# Altium schematic symbol library 1986BE8T.Schlib: 1 symbol
Pins are listed as number, name and electrical type; pins without a type are passive.

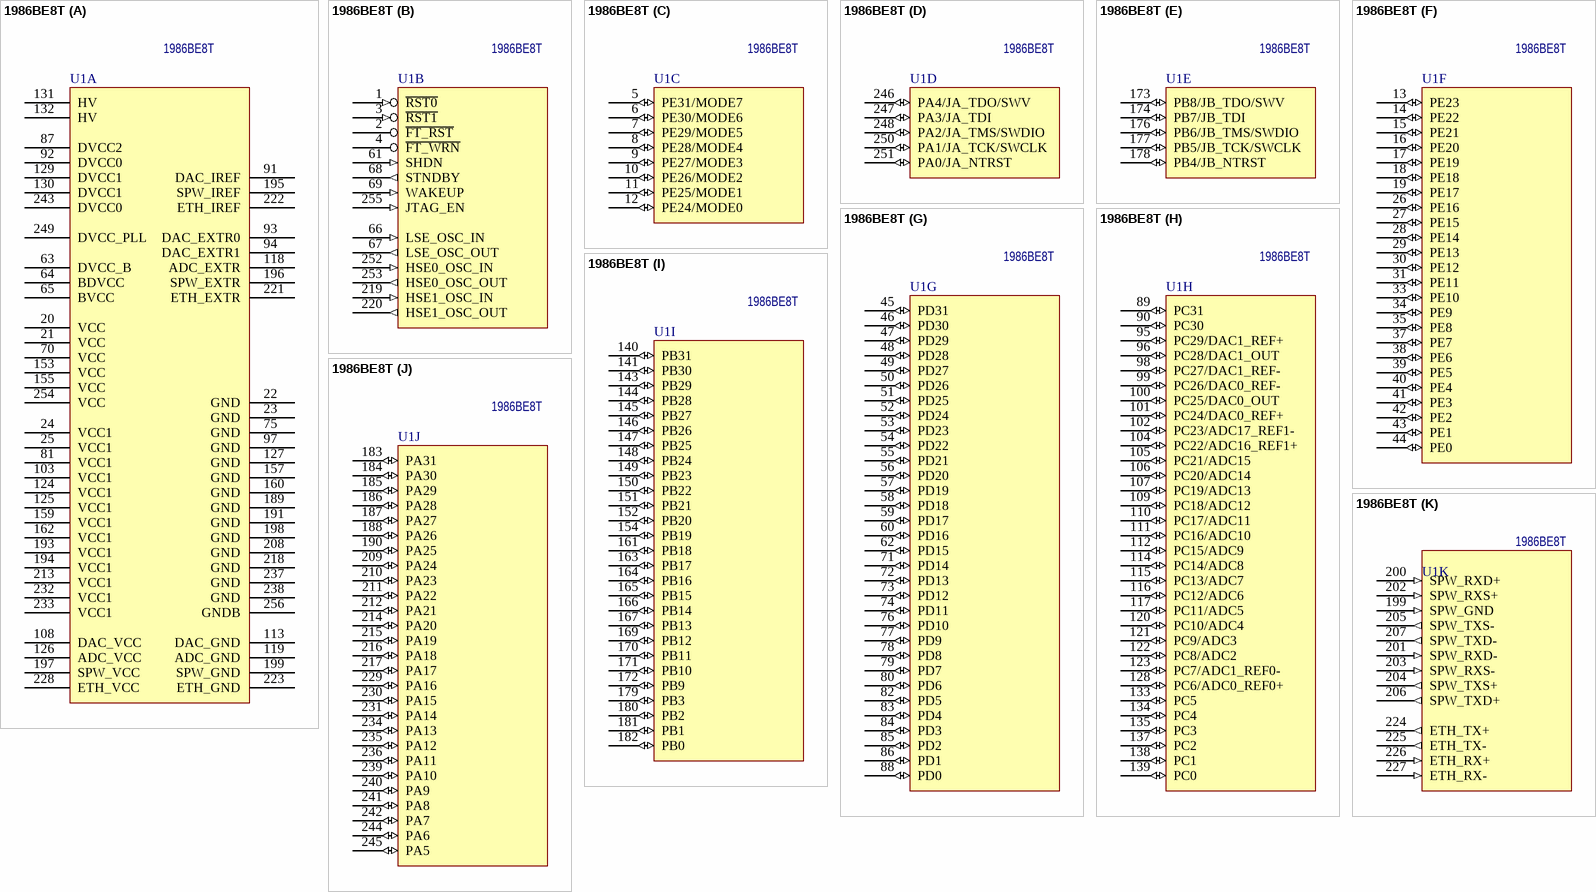
[diagram p0: symbol 1986BE8T]

## 1986BE8T
designator U1, comment Наименование: 1986BE8T  (hidden comment: 1986VE8T)
ARM CortexM4F микроконтроллер; Назначение: АРМ микроконтроллер; Потребление, Вт: *; ComponentLink1Description: DataSheet; ComponentLink1URL: https://ic.milandr.ru/upload/iblock/62c/62ca58d6ede1a3e06d56be1e19dbdbc8.pdf; ComponentLink2Description: Errata; ComponentLink2URL: https://ic.milandr.ru/upload/iblock/379/379105061a67e6dd9373b458eff4ec3a.pdf
footprint 4244.256-3
part A pins: 20 VCC (power), 21 VCC (power), 22 GND (power), 23 GND (power), 24 VCC1 (power), 25 VCC1 (power), 63 DVCC_B (power), 64 BDVCC (power), 65 BVCC (power), 70 VCC (power), 75 GND (power), 81 VCC1 (power), 87 DVCC2 (power), 91 DAC_IREF, 92 DVCC0 (power), 93 DAC_EXTR0, 94 DAC_EXTR1, 97 GND (power), 103 VCC1 (power), 108 DAC_VCC (power), 113 DAC_GND (power), 118 ADC_EXTR, 119 ADC_GND (power), 124 VCC1 (power), 125 VCC1 (power), 126 ADC_VCC (power), 127 GND (power), 129 DVCC1 (power), 130 DVCC1 (power), 131 HV (power), 132 HV (power), 153 VCC (power), 155 VCC (power), 157 GND (power), 159 VCC1 (power), 160 GND (power), 162 VCC1 (power), 189 GND (power), 191 GND (power), 193 VCC1 (power), 194 VCC1 (power), 195 SPW_IREF, 196 SPW_EXTR, 197 SPW_VCC (power), 198 GND (power), 199 SPW_GND (power), 208 GND (power), 213 VCC1 (power), 218 GND (power), 221 ETH_EXTR, 222 ETH_IREF, 223 ETH_GND (power), 228 ETH_VCC (power), 232 VCC1 (power), 233 VCC1 (power), 237 GND (power), 238 GND (power), 243 DVCC0 (power), 249 DVCC_PLL (power), 254 VCC (power), 256 GNDB (power)
part B pins: 1 ~{RST0} (in), 2 ~{FT_RST} (oc), 3 ~{RST1} (in), 4 ~{FT_WRN} (oc), 61 SHDN (in), 66 LSE_OSC_IN (in), 67 LSE_OSC_OUT (out), 68 STNDBY (out), 69 WAKEUP (in), 219 HSE1_OSC_IN (in), 220 HSE1_OSC_OUT (out), 252 HSE0_OSC_IN (in), 253 HSE0_OSC_OUT (out), 255 JTAG_EN (in)
part C pins: 5 PE31/MODE7 (io), 6 PE30/MODE6 (io), 7 PE29/MODE5 (io), 8 PE28/MODE4 (io), 9 PE27/MODE3 (io), 10 PE26/MODE2 (io), 11 PE25/MODE1 (io), 12 PE24/MODE0 (io)
part D pins: 246 PA4/JA_TDO/SWV (io), 247 PA3/JA_TDI (io), 248 PA2/JA_TMS/SWDIO (io), 250 PA1/JA_TCK/SWCLK (io), 251 PA0/JA_NTRST (io)
part E pins: 173 PB8/JB_TDO/SWV (io), 174 PB7/JB_TDI (io), 176 PB6/JB_TMS/SWDIO (io), 177 PB5/JB_TCK/SWCLK (io), 178 PB4/JB_NTRST (io)
part F pins: 13 PE23 (io), 14 PE22 (io), 15 PE21 (io), 16 PE20 (io), 17 PE19 (io), 18 PE18 (io), 19 PE17 (io), 26 PE16 (io), 27 PE15 (io), 28 PE14 (io), 29 PE13 (io), 30 PE12 (io), 31 PE11 (io), 33 PE10 (io), 34 PE9 (io), 35 PE8 (io), 37 PE7 (io), 38 PE6 (io), 39 PE5 (io), 40 PE4 (io), 41 PE3 (io), 42 PE2 (io), 43 PE1 (io), 44 PE0 (io)
part G pins: 45 PD31 (io), 46 PD30 (io), 47 PD29 (io), 48 PD28 (io), 49 PD27 (io), 50 PD26 (io), 51 PD25 (io), 52 PD24 (io), 53 PD23 (io), 54 PD22 (io), 55 PD21 (io), 56 PD20 (io), 57 PD19 (io), 58 PD18 (io), 59 PD17 (io), 60 PD16 (io), 62 PD15 (io), 71 PD14 (io), 72 PD13 (io), 73 PD12 (io), 74 PD11 (io), 76 PD10 (io), 77 PD9 (io), 78 PD8 (io), 79 PD7 (io), 80 PD6 (io), 82 PD5 (io), 83 PD4 (io), 84 PD3 (io), 85 PD2 (io), 86 PD1 (io), 88 PD0 (io)
part H pins: 89 PC31 (io), 90 PC30 (io), 95 PC29/DAC1_REF+ (io), 96 PC28/DAC1_OUT (io), 98 PC27/DAC1_REF- (io), 99 PC26/DAC0_REF- (io), 100 PC25/DAC0_OUT (io), 101 PC24/DAC0_REF+ (io), 102 PC23/ADC17_REF1- (io), 104 PC22/ADC16_REF1+ (io), 105 PC21/ADC15 (io), 106 PC20/ADC14 (io), 107 PC19/ADC13 (io), 109 PC18/ADC12 (io), 110 PC17/ADC11 (io), 111 PC16/ADC10 (io), 112 PC15/ADC9 (io), 114 PC14/ADC8 (io), 115 PC13/ADC7 (io), 116 PC12/ADC6 (io), 117 PC11/ADC5 (io), 120 PC10/ADC4 (io), 121 PC9/ADC3 (io), 122 PC8/ADC2 (io), 123 PC7/ADC1_REF0- (io), 128 PC6/ADC0_REF0+ (io), 133 PC5 (io), 134 PC4 (io), 135 PC3 (io), 137 PC2 (io), 138 PC1 (io), 139 PC0 (io)
part I pins: 140 PB31 (io), 141 PB30 (io), 143 PB29 (io), 144 PB28 (io), 145 PB27 (io), 146 PB26 (io), 147 PB25 (io), 148 PB24 (io), 149 PB23 (io), 150 PB22 (io), 151 PB21 (io), 152 PB20 (io), 154 PB19 (io), 161 PB18 (io), 163 PB17 (io), 164 PB16 (io), 165 PB15 (io), 166 PB14 (io), 167 PB13 (io), 169 PB12 (io), 170 PB11 (io), 171 PB10 (io), 172 PB9 (io), 179 PB3 (io), 180 PB2 (io), 181 PB1 (io), 182 PB0 (io)
part J pins: 183 PA31 (io), 184 PA30 (io), 185 PA29 (io), 186 PA28 (io), 187 PA27 (io), 188 PA26 (io), 190 PA25 (io), 209 PA24 (io), 210 PA23 (io), 211 PA22 (io), 212 PA21 (io), 214 PA20 (io), 215 PA19 (io), 216 PA18 (io), 217 PA17 (io), 229 PA16 (io), 230 PA15 (io), 231 PA14 (io), 234 PA13 (io), 235 PA12 (io), 236 PA11 (io), 239 PA10 (io), 240 PA9 (io), 241 PA8 (io), 242 PA7 (io), 244 PA6 (io), 245 PA5 (io)
part K pins: 199 SPW_GND (in), 200 SPW_RXD+ (in), 201 SPW_RXD- (in), 202 SPW_RXS+ (in), 203 SPW_RXS- (in), 204 SPW_TXS+ (out), 205 SPW_TXS- (out), 206 SPW_TXD+ (out), 207 SPW_TXD- (out), 224 ETH_TX+ (out), 225 ETH_TX- (out), 226 ETH_RX+ (in), 227 ETH_RX- (in)
2 alternate drawings of the same symbol